# Altium footprint library АЛ307.PcbLib: 1 footprints
Each footprint in its own frame and in the unit in brackets; x right, y up, seen from the top. Pads: shape width x height; smd on the part's side, far side on the other; paste and mask are expansions set on the pad; w line width, h text height; cw(c..) or ccw(c..) is an arc to the next point about the centre after c.
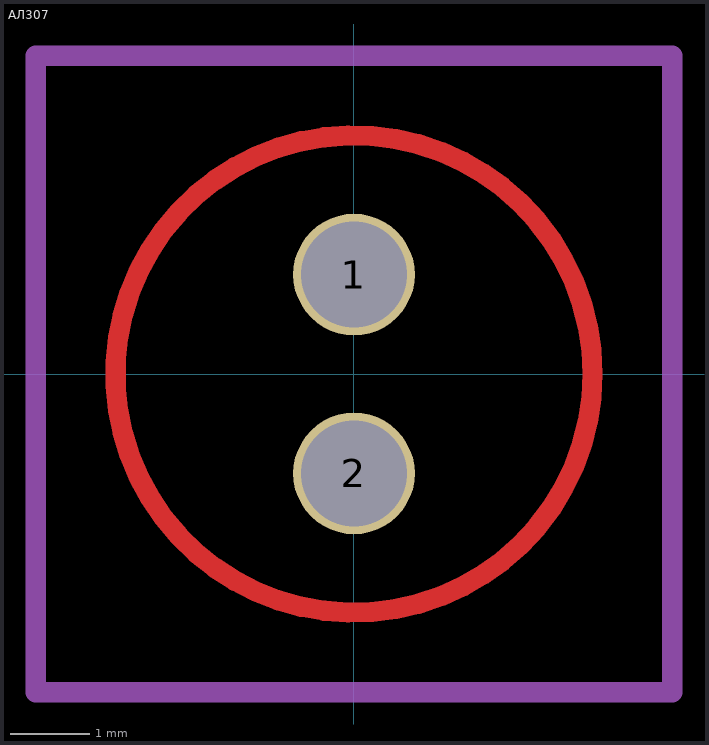
[diagram p0: the footprint, top view; thin cyan lines are the x and y axes]

## АЛ307 [mm]
pads (2):
  round 1.53 hole 1.33: 1(0,1.25) 2(0,-1.25)
Top Layer:
  circle w0.254: c0,0 r3
Mechanical 1:
  lines w0.254: -4,-4 -4,4 4,4 4,-4 -4,-4